# Altium schematic symbol library Symbols.SchLib: 1 symbol
Pins are listed as number, name and electrical type; pins without a type are passive.

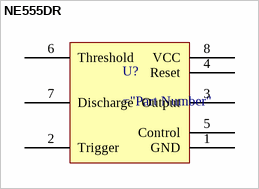
[diagram p0: symbol NE555DR]

## NE555DR
designator U?
pins: 1 GND, 2 Trigger, 3 Output, 4 Reset, 5 Control, 6 Threshold, 7 Discharge, 8 VCC